# EAGLE library part AUDIO-JACK-SMD-8P(PJ-3536-L6S) (library OPL_Connector)
320040003
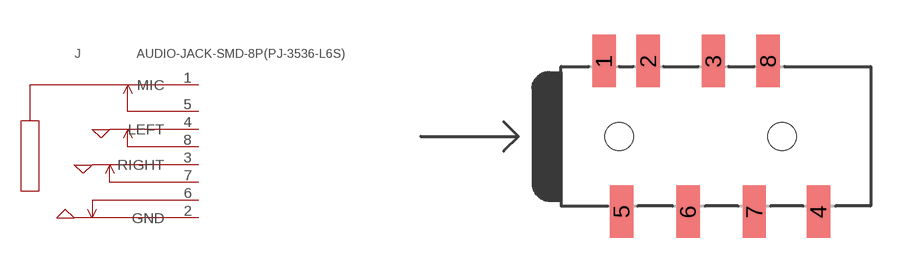
[diagram p28: symbol with the pads of AUDIO8P-SMD-3.5-14.5X6X5MM; footprint AUDIO8P-SMD-3.5-14.5X6X5MM]

Designator prefix J

## AUDIO-JACK-SMD-8P(PJ-3536-L6S) (MPN: PJ-3536-L6S; VALUE: PJ-3536-L6S)  [AUDIO8P-SMD-3.5-14.5X6X5MM]
1  MIC
2  GND
3  RIGHT
4  LEFT
5  5
6  6
7  7
8  8

## Footprint AUDIO8P-SMD-3.5-14.5X6X5MM (pad centres in mm)
smd 1 x 2.25: 1 3.05,3.24; 2 4.95,3.24; 3 7.75,3.24; 4 12.26,-3.24; 5 3.81,-3.24; 6 6.66,-3.24; 7 9.51,-3.24; 8 10.1,3.24
hole 1.2 at 3.7,0
hole 1.2 at 10.7,0